# EAGLE library part TOP242-250-R (library TOP-Switcher)
Extendet Power, Design Flexible. EcoSmart, Off-line Switcher ( 0...82W)
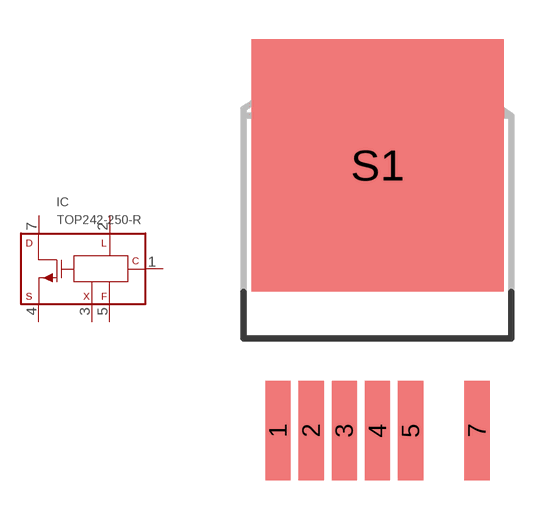
[diagram p7: symbol with the pads of TO220-R; footprint TO220-R]

Designator prefix IC

## TOP242-250-R  [TO220-R]
1  C
2  L
3  X
4  S
5  F
7  D

## Footprint TO220-R (pad centres in mm)
smd 0.965 x 3.81: 1 -3.81,-10.16; 2 -2.54,-10.16; 3 -1.27,-10.16; 4 0,-10.16; 5 1.27,-10.16; 7 3.81,-10.16
smd 9.652 x 9.652: S1 0,0